# Altium integrated library Altium_Library.IntLib: 5 symbols
Pins are listed as number, name and electrical type; pins without a type are passive.

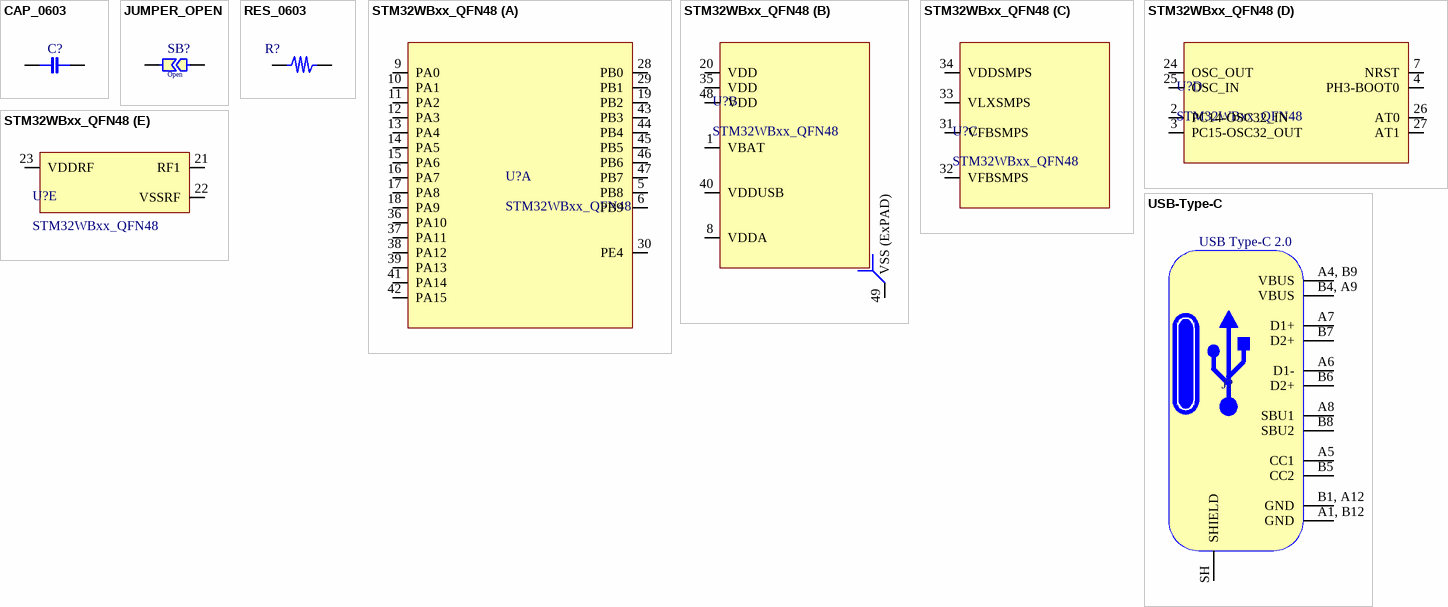
[diagram p0: symbols CAP_0603 to USB-Type-C]

## CAP_0603
designator C?  (value not drawn)
Capacitor SMD, 0603; Mfr. Part #: *; LCSC Part #: *; Digikey Part #: *; Part Type: *; Value: *; Mfr Name: *
pins: 1, 2

## JUMPER_OPEN
designator SB?, comment value Open  (hidden comment: Jumper_Open)
Jumper Open
pins: 1, 2

## RES_0603
designator R?  (value not drawn)
Resistor, SMD, 0603; Mfr. Part #: *; LCSC Part #: *; Digikey Part #: *; Part Type: *; Value: *; Mfr Name: *
pins: 1, 1

## STM32WBxx_QFN48
designator U?
STM32WBxx QFN48; Mfr. Part #: *; LCSC Part #: *; Part Type: *; Mfr Name: *; Value: *; Digikey Part #: *
part A pins: 5 PB8, 6 PB9, 9 PA0, 10 PA1, 11 PA2, 12 PA3, 13 PA4, 14 PA5, 15 PA6, 16 PA7, 17 PA8, 18 PA9, 19 PB2, 28 PB0, 29 PB1, 30 PE4, 36 PA10, 37 PA11, 38 PA12, 39 PA13, 41 PA14, 42 PA15, 43 PB3, 44 PB4, 45 PB5, 46 PB6, 47 PB7
part B pins: 1 VBAT, 8 VDDA, 20 VDD, 35 VDD, 40 VDDUSB, 48 VDD, 49 VSS (ExPAD)
part C pins: 31 VFBSMPS, 32 VFBSMPS, 33 VLXSMPS, 34 VDDSMPS
part D pins: 2 PC14-OSC32_IN, 3 PC15-OSC32_OUT, 4 PH3-BOOT0, 7 NRST, 24 OSC_OUT, 25 OSC_IN, 26 AT0, 27 AT1
part E pins: 21 RF1, 22 VSSRF, 23 VDDRF

## USB-Type-C
designator J?  value USB Type-C 2.0  (hidden comment: USB-Type-C)
USB Type C; Mfr. Part #: *; LCSC Part #: *; Digikey Part #: *; Mfr Name: *; Part Type: *
pins: A1, B12 GND, A4, B9 VBUS, A5 CC1, A6 D1-, A7 D1+, A8 SBU1, B1, A12 GND, B4, A9 VBUS, B5 CC2, B6 D2+, B7 D2+, B8 SBU2, SH SHIELD